# EAGLE library part SOCKET-6 (library con-3m-skt-header)
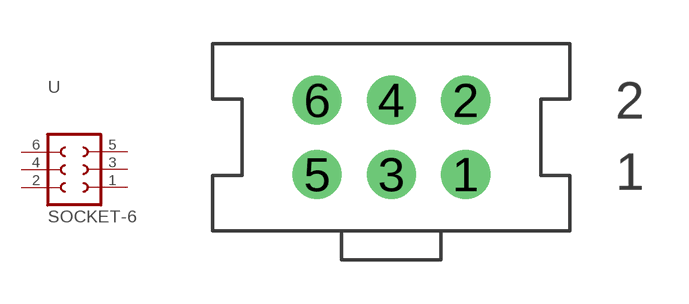
[diagram p11: symbol with the pads of S6V; footprint S6V]

Designator prefix -

## SOCKET-6  [S6V]
1  1  pas
2  2  pas
3  3  pas
4  4  pas
5  5  pas
6  6  pas

## Footprint S6V (pad centres in mm)
drill 0.8 pad 1.676: 1 5.08,-1.27; 2 5.08,1.27; 3 2.54,-1.27; 4 2.54,1.27; 5 0,-1.27; 6 0,1.27